# EAGLE library part ADP7118ARDZ-5.0-R7 (library ADP7118ARDZ-5.0-R7)
ANALOG DEVICES - ADP7118ARDZ-5.0-R7 - LDO Voltage Regulator, Fixed, 2.7 V to 20 V in, 200 mV drop, 5 V/200 mA out, NSOIC-8 Source: Datasheet <https://www.analog.com/media/en/technical-documentation/data-sheets/adp7118.pdf>
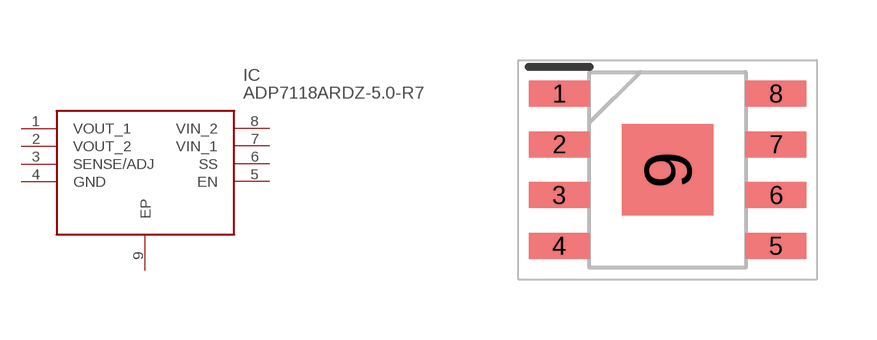
[diagram p0: symbol with the pads of SOIC127P600X175-9N; footprint SOIC127P600X175-9N]

Designator prefix IC

## ADP7118ARDZ-5.0-R7 (Description: ANALOG DEVICES - ADP7118ARDZ-5.0-R7 - LDO Voltage Regulator, Fixed, 2.7 V to 20 V in, 200 mV drop, 5 V/200 mA out, NSOIC-8; Height: 1.75mm; Manufacturer_Name: Analog Devices; Manufacturer_Part_Number: ADP7118ARDZ-5.0-R7; Mouser_Part_Number: 584-ADP7118ARDZ5.0R7; Mouser_Price-Stock: https://www.mouser.co.uk/ProductDetail/Analog-Devices/ADP7118ARDZ-5.0-R7?qs=hpwIUhX6lWxkjIxJkz884Q%3D%3D)  [SOIC127P600X175-9N]
1  VOUT_1
2  VOUT_2
3  SENSE/ADJ
4  GND
5  EN
6  SS
7  VIN_1
8  VIN_2
9  EP

## Footprint SOIC127P600X175-9N (pad centres in mm)
RD-8-1
smd 1.525 x 0.65: 1 -2.712,1.905; 2 -2.712,0.635; 3 -2.712,-0.635; 4 -2.712,-1.905; 5 2.712,-1.905; 6 2.712,-0.635; 7 2.712,0.635; 8 2.712,1.905
smd 2.29 x 2.29: 9 0,0